# Altium footprint library 2021-04-13_19-21-58.PcbLib: 1 footprints
Each footprint in its own frame and in the unit in brackets; x right, y up, seen from the top. Pads: shape width x height; smd on the part's side, far side on the other; paste and mask are expansions set on the pad; w line width, h text height; cw(c..) or ccw(c..) is an arc to the next point about the centre after c.
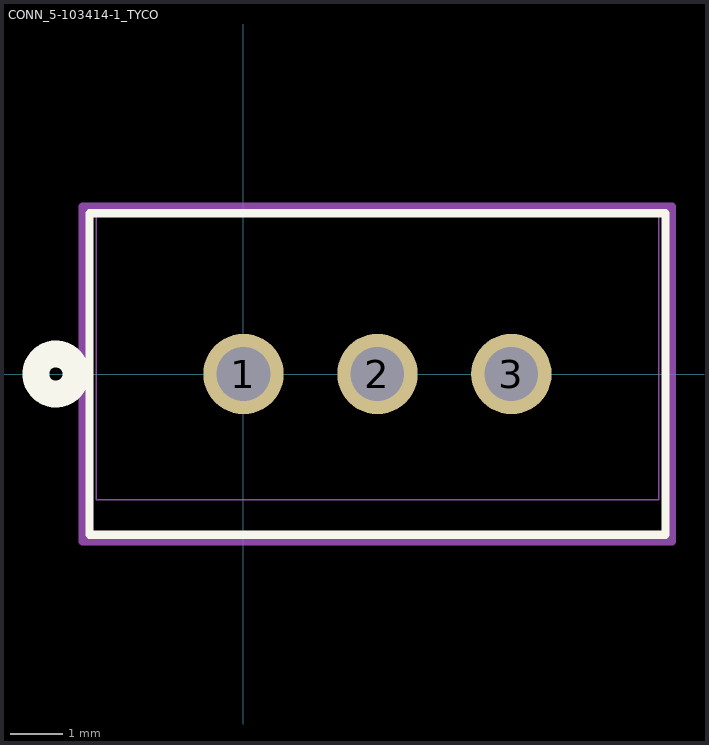
[diagram p0: the footprint, top view; thin cyan lines are the x and y axes]

## CONN_5-103414-1_TYCO [mil]
pads (3):
  round 60 hole 40 mask+0: 1(0,0) 2(100,0) 3(200,0)
Top Overlay:
  circle w20: c-140,0 r15
  lines w6: -115,-120 315,-120 315,120 -115,120 -115,-120
Bottom Overlay:
  circle w20: c-140,0 r15
Mechanical 13:
  lines w1: -110,-94 -110,120 310,120 310,-94 -110,-94
Mechanical 15:
  lines w6: -120,-125 320,-125 320,125 -120,125 -120,-125
3D body "5-103414-1.stp": height 560, standoff -119, extent -110,-112 310,114.5
3D body: height 10, standoff 0, extent 0,0 10,10